# Altium footprint library RadioProjectFPLib.PcbLib: 35 footprints (part 3 of 3)
Each footprint in its own frame and in the unit in brackets; x right, y up, seen from the top. Pads: shape width x height; smd on the part's side, far side on the other; paste and mask are expansions set on the pad; w line width, h text height; cw(c..) or ccw(c..) is an arc to the next point about the centre after c.
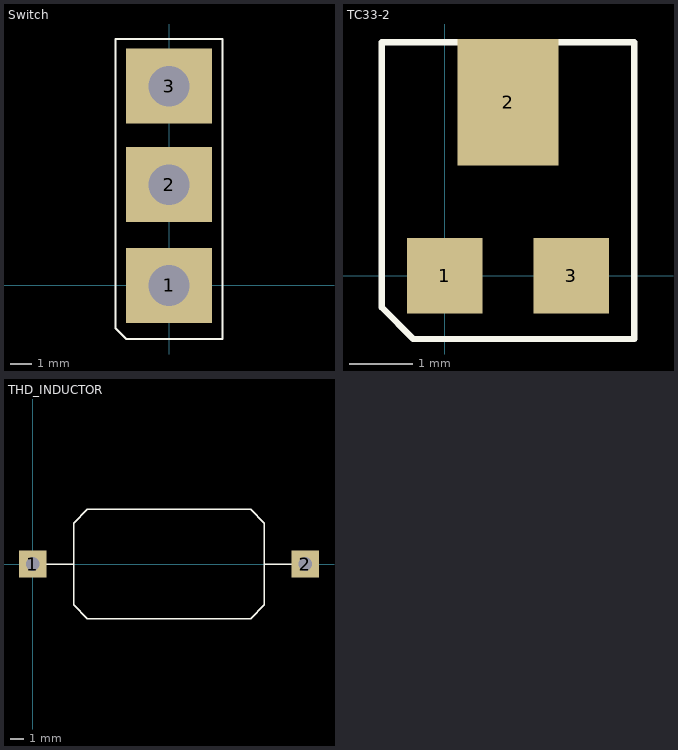
[diagram p2: the footprints below, top view; thin cyan lines are the x and y axes]

## Switch [mm] "3 position switch"
height 15
pads (3):
  rect 4x3.5 hole 1.9: 1(0,0) 2(0,4.7) 3(0,9.3)
Top Overlay:
  lines w0.1: -2.5,-2 -2.5,11.5 2.5,11.5 2.5,-2.5 -2,-2.5 -2.5,-2
Multi-Layer:
  pour cut-out: 2.5,11.5 -2.5,11.5 -2.5,-2.5 2.5,-2.5
3D body: height 13.95, standoff 5.12, extent -1.24,-0.953 1.25,7.882
3D body: height 8, standoff 0, extent -1.5,-1.5 1.5,10.5

## TC33-2 [mm] "Variable resistor"
height 1.2
pads (3):
  rect 1.2x1.2 smd: 1(0,0) 3(2,0)
  rect 1.6x2 smd: 2(1,2.75)
Top Overlay:
  lines w0.1: -1,-0.5 -0.5,-1 3,-1 3,3.7 -1,3.7 -1,-0.5
3D body: height 1.2, standoff 0, extent -0.786,-0.296 2.8,3.296

## THD_INDUCTOR [mm]
height 8
pads (2):
  rect 2x2 hole 1: 1(0,0) 2(20,0)
Top Overlay:
  lines w0.1: 1,0 3,0 ; 19,0 17,0 ; 3,0 3,3 4,4 16,4 17,3 17,0 ; 3,0 3,-3 4,-4 5,-4 16,-4 17,-3 17,-1 17,0
3D body: height 3.5, standoff 2.5, extent 15.5,-0.505 20,0.493
3D body: height 3.5, standoff 2.5, extent 0,-0.499 4.5,0.499
3D body: height 5.98, standoff 0, extent 4.5,-3 15.5,2.988
3D body: height 3, standoff 0, extent 19.504,-0.499 20.5,0.499
3D body: height 3, standoff 0, extent -0.496,-0.499 0.5,0.499